# EAGLE library part MC33201DG (library on-semiconductor-01)
Low Voltage, Rail-to-Rail Operational Amplifiers
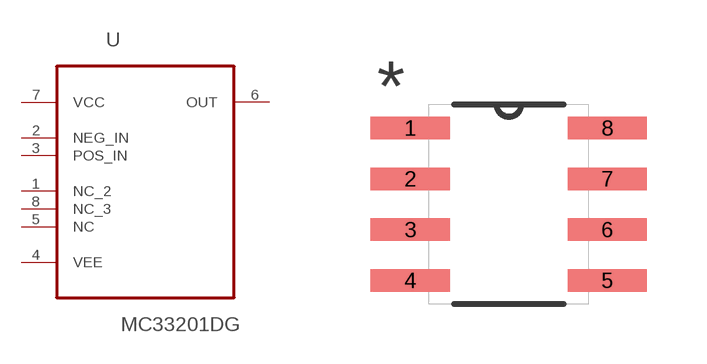
[diagram p365: symbol with the pads of SOIC127P600X175-8N; footprint SOIC127P600X175-8N]

Designator prefix U

## MC33201DG (MPN: MC33201DG; OC_FARNELL: 9666656; OC_NEWARK: 71J5522; PACKAGE: SOIC-8; SUPPLIER: Onsemiconductor)  [SOIC127P600X175-8N]
1  NC_2  nc
2  NEG_IN  in
3  POS_IN  in
4  VEE  pwr
5  NC  nc
6  OUT  out
7  VCC  pwr
8  NC_3  nc

## Footprint SOIC127P600X175-8N (pad centres in mm)
smd 1.981 x 0.559: 1 -2.464,1.905; 2 -2.464,0.635; 3 -2.464,-0.635; 4 -2.464,-1.905; 5 2.464,-1.905; 6 2.464,-0.635; 7 2.464,0.635; 8 2.464,1.905